# Altium footprint library Capacitor.PcbLib: 107 footprints (part 4 of 7)
Each footprint in its own frame and in the unit in brackets; x right, y up, seen from the top. Pads: shape width x height; smd on the part's side, far side on the other; paste and mask are expansions set on the pad; w line width, h text height; cw(c..) or ccw(c..) is an arc to the next point about the centre after c.
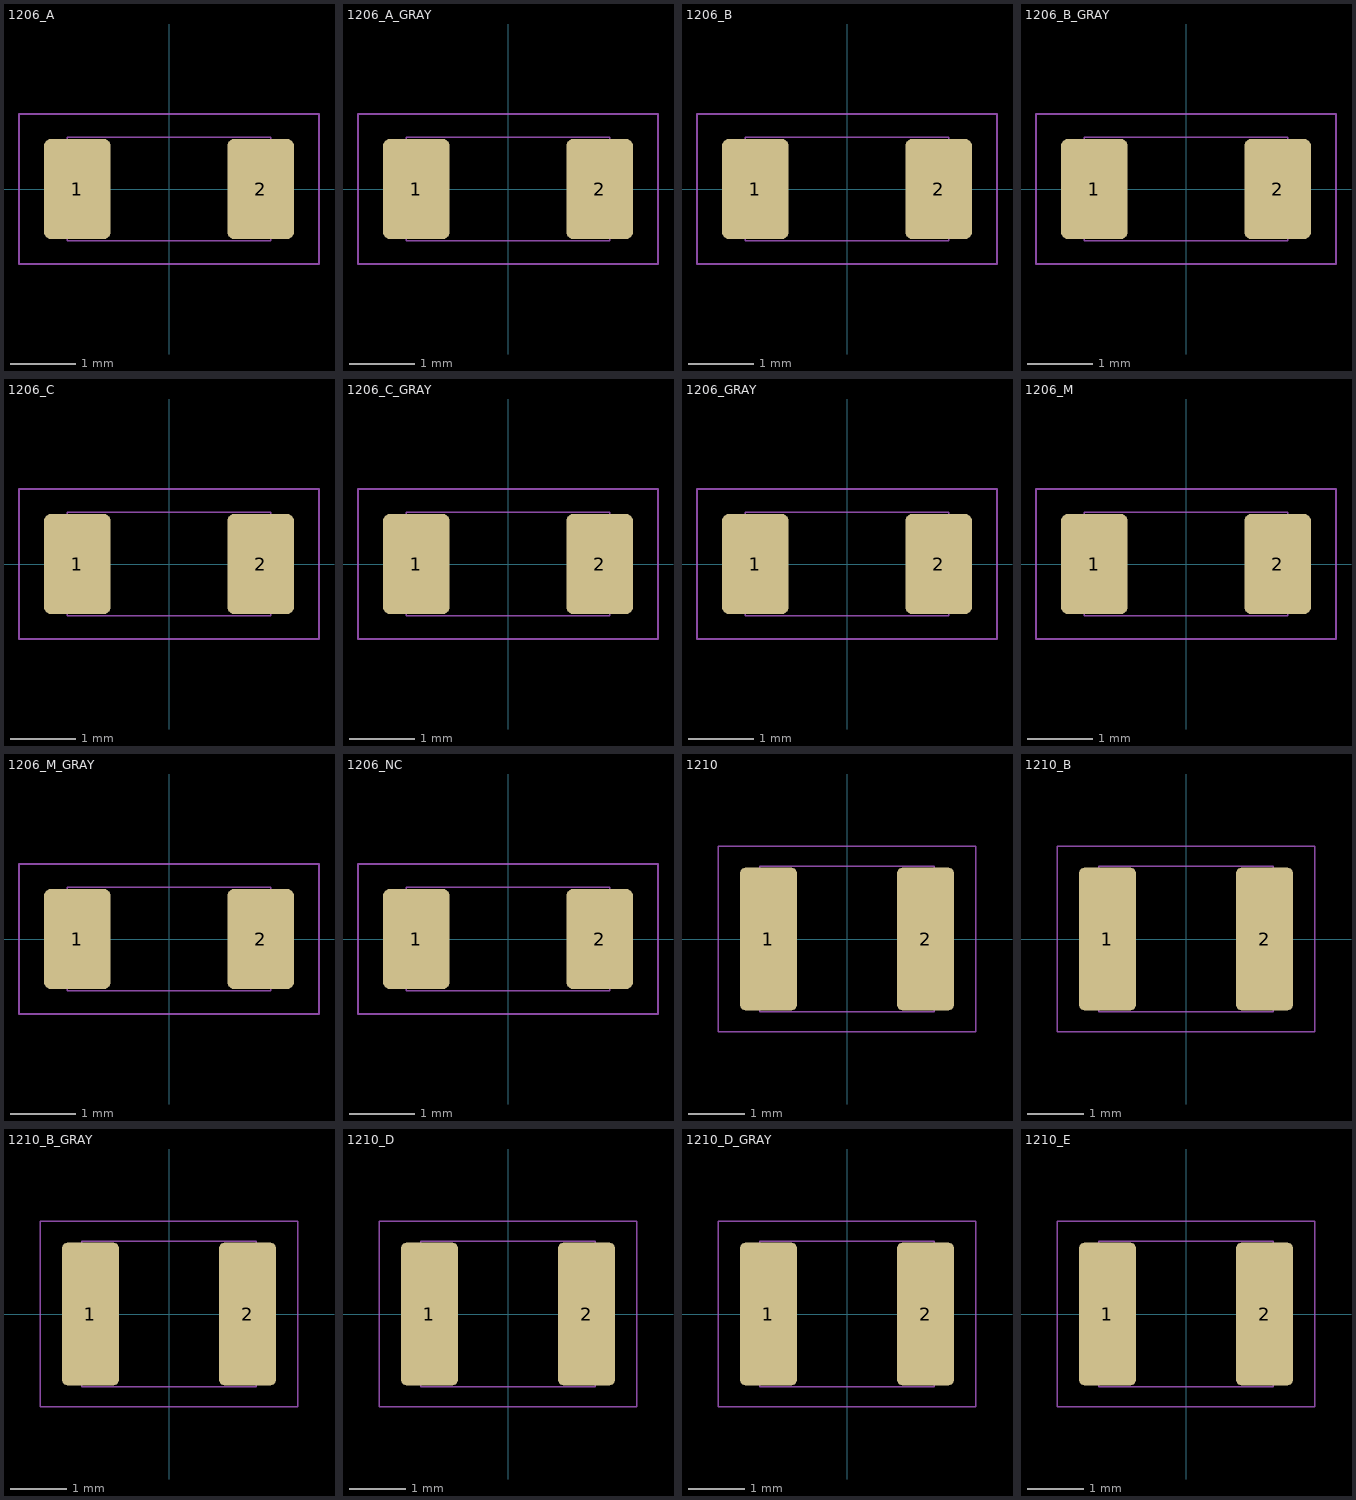
[diagram p3: the footprints below, top view; thin cyan lines are the x and y axes]

## 1206_A [mil]
height 39.37
pads (2):
  rrect20% 40x60 smd mask+2: 1(-55,0) 2(55,0)
Top Designator:
  text ".Designator" at -127.64,-12.5 h35
Top Courtyard:
  lines w1: -90,-45 90,-45 90,45 -90,45 -90,-45
Top Component Outline:
  lines w1: -61,-31 61,-31 61,31 -61,31 -61,-31
3D body: height 39.37, standoff 0, extent -61,-31 -35,31
3D body: height 39, standoff 1, extent -60,-30 60,30
3D body: height 39.37, standoff 0, extent 35,-31 61,31

## 1206_A_GRAY [mil]
height 39.37
pads (2):
  rrect20% 40x60 smd mask+2: 1(-55,0) 2(55,0)
Top Designator:
  text ".Designator" at -127.64,-12.5 h35
Top Courtyard:
  lines w1: -90,-45 -90,45 90,45 90,-45 -90,-45
Top Component Outline:
  lines w1: -61,-31 -61,31 61,31 61,-31 -61,-31
3D body: height 39.37, standoff 0, extent 35,-31 61,31
3D body: height 39, standoff 1, extent -60,-30 60,30
3D body: height 39.37, standoff 0, extent -61,-31 -35,31

## 1206_B [mil]
height 49.21
pads (2):
  rrect20% 40x60 smd mask+2: 1(-55,0) 2(55,0)
Top Designator:
  text ".Designator" at -127.64,-12.5 h35
Top Courtyard:
  lines w1: -90,-45 -90,45 90,45 90,-45 -90,-45
Top Component Outline:
  lines w1: -61,-31 -61,31 61,31 61,-31 -61,-31
3D body: height 49.21, standoff 0, extent 35,-31 61,31
3D body: height 49, standoff 1, extent -60,-30 60,30
3D body: height 49.21, standoff 0, extent -61,-31 -35,31

## 1206_B_GRAY [mil]
height 49.21
pads (2):
  rrect20% 40x60 smd mask+2: 1(-55,0) 2(55,0)
Top Designator:
  text ".Designator" at -127.64,-12.5 h35
Top Courtyard:
  lines w1: -90,-45 90,-45 90,45 -90,45 -90,-45
Top Component Outline:
  lines w1: -61,-31 61,-31 61,31 -61,31 -61,-31
3D body: height 49.21, standoff 0, extent -61,-31 -35,31
3D body: height 49, standoff 1, extent -60,-30 60,30
3D body: height 49.21, standoff 0, extent 35,-31 61,31

## 1206_C [mil]
height 62.99
pads (2):
  rrect20% 40x60 smd mask+2: 1(-55,0) 2(55,0)
Top Designator:
  text ".Designator" at -127.64,-12.5 h35
Top Courtyard:
  lines w1: -90,-45 90,-45 90,45 -90,45 -90,-45
Top Component Outline:
  lines w1: -61,-31 61,-31 61,31 -61,31 -61,-31
3D body: height 62.99, standoff 0, extent -61,-31 -35,31
3D body: height 62, standoff 1, extent -60,-30 60,30
3D body: height 62.99, standoff 0, extent 35,-31 61,31

## 1206_C_GRAY [mil]
height 62.99
pads (2):
  rrect20% 40x60 smd mask+2: 1(-55,0) 2(55,0)
Top Designator:
  text ".Designator" at -127.64,-12.5 h35
Top Courtyard:
  lines w1: -90,-45 90,-45 90,45 -90,45 -90,-45
Top Component Outline:
  lines w1: -61,-31 61,-31 61,31 -61,31 -61,-31
3D body: height 62.99, standoff 0, extent -61,-31 -35,31
3D body: height 62, standoff 1, extent -60,-30 60,30
3D body: height 62.99, standoff 0, extent 35,-31 61,31

## 1206_GRAY [mil]
height 33.46
pads (2):
  rrect20% 40x60 smd mask+2: 1(-55,0) 2(55,0)
Top Designator:
  text ".Designator" at -127.64,-12.5 h35
Top Courtyard:
  lines w1: -90,-45 90,-45 90,45 -90,45 -90,-45
Top Component Outline:
  lines w1: -61,-31 61,-31 61,31 -61,31 -61,-31
3D body: height 33.46, standoff 0, extent -61,-31 -35,31
3D body: height 33, standoff 1, extent -60,-30 60,30
3D body: height 33.46, standoff 0, extent 35,-31 61,31

## 1206_M [mil]
height 45.28
pads (2):
  rrect20% 40x60 smd mask+2: 1(-55,0) 2(55,0)
Top Designator:
  text ".Designator" at -127.64,-12.5 h35
Top Courtyard:
  lines w1: -90,-45 -90,45 90,45 90,-45 -90,-45
Top Component Outline:
  lines w1: -61,-31 -61,31 61,31 61,-31 -61,-31
3D body: height 45.28, standoff 0, extent 35,-31 61,31
3D body: height 44.5, standoff 1, extent -60,-30 60,30
3D body: height 45.28, standoff 0, extent -61,-31 -35,31

## 1206_M_GRAY [mil]
height 45.28
pads (2):
  rrect20% 40x60 smd mask+2: 1(-55,0) 2(55,0)
Top Designator:
  text ".Designator" at -127.64,-12.5 h35
Top Courtyard:
  lines w1: -90,-45 -90,45 90,45 90,-45 -90,-45
Top Component Outline:
  lines w1: -61,-31 -61,31 61,31 61,-31 -61,-31
3D body: height 45.28, standoff 0, extent 35,-31 61,31
3D body: height 44.5, standoff 1, extent -60,-30 60,30
3D body: height 45.28, standoff 0, extent -61,-31 -35,31

## 1206_NC [mil]
height 62.99
pads (2):
  rrect20% 40x60 smd mask+2: 1(-55,0) 2(55,0)
Top Designator:
  text ".Designator" at -127.64,-12.5 h35
Top Courtyard:
  lines w1: -90,-45 90,-45 90,45 -90,45 -90,-45
Top Component Outline:
  lines w1: -61,-31 61,-31 61,31 -61,31 -61,-31
3D body: height 1, standoff 0, extent -61,-31 61,31

## 1210 [mil]
height 39.37
pads (2):
  rrect20% 40x100 smd: 1(-55,0) 2(55,0)
Top Designator:
  text ".Designator" at -127.64,-12.5 h35
Top Courtyard:
  lines w1: -90,-65 90,-65 90,65 -90,65 -90,-65
Top Component Outline:
  lines w1: -61,-51 61,-51 61,51 -61,51 -61,-51
3D body: height 39.37, standoff 0, extent -61,-51 -35,51
3D body: height 38.5, standoff 1, extent -60,-50 60,50
3D body: height 39.37, standoff 0, extent 35,-51 61,51

## 1210_B [mil]
height 49.21
pads (2):
  rrect20% 40x100 smd: 1(-55,0) 2(55,0)
Top Designator:
  text ".Designator" at -127.64,-12.5 h35
Top Courtyard:
  lines w1: -90,-65 -90,65 90,65 90,-65 -90,-65
Top Component Outline:
  lines w1: -61,-51 -61,51 61,51 61,-51 -61,-51
3D body: height 49.21, standoff 0, extent 35,-51 61,51
3D body: height 48.5, standoff 1, extent -60,-50 60,50
3D body: height 49.21, standoff 0, extent -61,-51 -35,51

## 1210_B_GRAY [mil]
height 49.21
pads (2):
  rrect20% 40x100 smd: 1(-55,0) 2(55,0)
Top Designator:
  text ".Designator" at -127.64,-12.5 h35
Top Courtyard:
  lines w1: -90,-65 90,-65 90,65 -90,65 -90,-65
Top Component Outline:
  lines w1: -61,-51 61,-51 61,51 -61,51 -61,-51
3D body: height 49.21, standoff 0, extent -61,-51 -35,51
3D body: height 48.5, standoff 1, extent -60,-50 60,50
3D body: height 49.21, standoff 0, extent 35,-51 61,51

## 1210_D [mil]
height 78.74
pads (2):
  rrect20% 40x100 smd: 1(-55,0) 2(55,0)
Top Designator:
  text ".Designator" at -127.64,-12.5 h35
Top Courtyard:
  lines w1: -90,-65 -90,65 90,65 90,-65 -90,-65
Top Component Outline:
  lines w1: -61,-51 -61,51 61,51 61,-51 -61,-51
3D body: height 78.74, standoff 0, extent 35,-51 61,51
3D body: height 78, standoff 1, extent -60,-50 60,50
3D body: height 78.74, standoff 0, extent -61,-51 -35,51

## 1210_D_GRAY [mil]
height 78.74
pads (2):
  rrect20% 40x100 smd: 1(-55,0) 2(55,0)
Top Designator:
  text ".Designator" at -127.64,-12.5 h35
Top Courtyard:
  lines w1: -90,-65 90,-65 90,65 -90,65 -90,-65
Top Component Outline:
  lines w1: -61,-51 61,-51 61,51 -61,51 -61,-51
3D body: height 78.74, standoff 0, extent -61,-51 -35,51
3D body: height 78, standoff 1, extent -60,-50 60,50
3D body: height 78.74, standoff 0, extent 35,-51 61,51

## 1210_E [mil]
height 98.43
pads (2):
  rrect20% 40x100 smd: 1(-55,0) 2(55,0)
Top Designator:
  text ".Designator" at -127.64,-12.5 h35
Top Courtyard:
  lines w1: -90,-65 -90,65 90,65 90,-65 -90,-65
Top Component Outline:
  lines w1: -61,-51 -61,51 61,51 61,-51 -61,-51
3D body: height 98.43, standoff 0, extent 35,-51 61,51
3D body: height 98, standoff 1, extent -60,-50 60,50
3D body: height 98.43, standoff 0, extent -61,-51 -35,51